# EAGLE library part EDGE-LIBRARY_AP64501_AP64501 (library Local Compute Module)
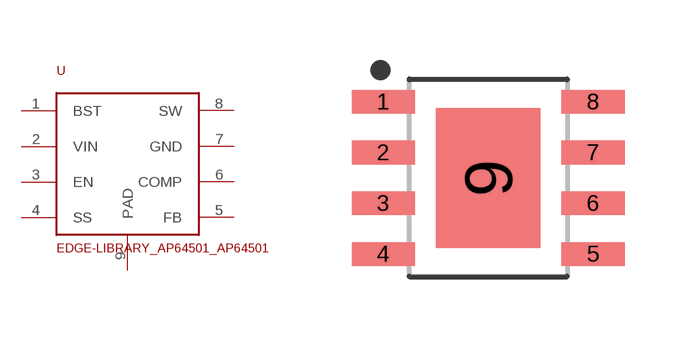
[diagram p2: symbol with the pads of EDGE-LIBRARY_AP64501_SOIC127P600X265-9T261X350N; footprint EDGE-LIBRARY_AP64501_SOIC127P600X265-9T261X350N]

Designator prefix U

## EDGE-LIBRARY_AP64501_AP64501 (DIGIKEY: AP64501SP-13CT-ND; MANUFACTURE: Diodes Incorporated; MPN: AP64501SP-13)  [EDGE-LIBRARY_AP64501_SOIC127P600X265-9T261X350N]
1  BST
2  VIN
3  EN
4  SS
5  FB
6  COMP
7  GND
8  SW
9  PAD

## Footprint EDGE-LIBRARY_AP64501_SOIC127P600X265-9T261X350N (pad centres in mm)
8-SOIC, 1.27 mm pitch, 6.00 mm span, 4.90 X 3.90 X 2.65 mm body, 3.50 X 2.61 mm thermal pad 8-pin SOIC package with 1.27 mm pitch, 6.00 mm span with body size 4.90 X 3.90 X 2.65 mm and thermal pad size 3.50 X 2.61 mm
smd 1.58 x 0.589: 1 -2.625,1.905; 2 -2.625,0.635; 3 -2.625,-0.635; 4 -2.625,-1.905; 5 2.625,-1.905; 6 2.625,-0.635; 7 2.625,0.635; 8 2.625,1.905
smd 2.613 x 3.502: 9 0,0